# EAGLE library part 558342-CAT5 (library con-amp)
Modular Jack CAT-5
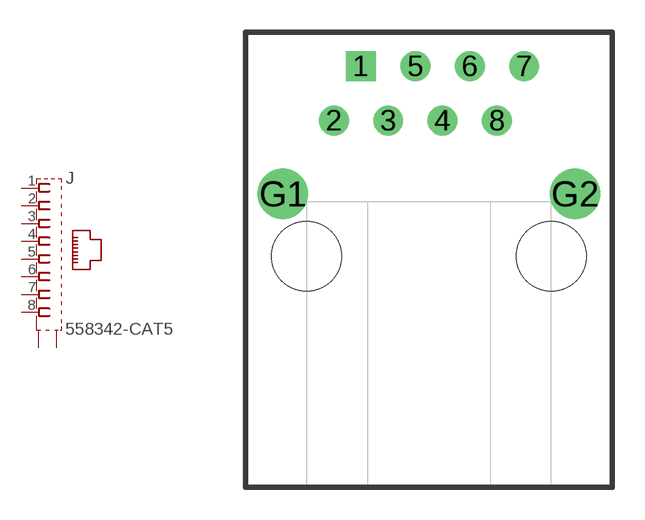
[diagram p137: symbol with the pads of 558342-CAT5; footprint 558342-CAT5]

Designator prefix J

## 558342-CAT5  [558342-CAT5]
1  1  pas
2  2  pas
3  3  pas
4  4  pas
5  5  pas
6  6  pas
7  7  pas
8  8  pas
G1  S1  pas
G2  S2  pas

## Footprint 558342-CAT5 (pad centres in mm)
Modular Jack CAT-5 CAT-5 PIN ORDER!
drill 0.889 square: 1 -3.175,8.89
drill 0.889: 2 -4.445,6.35; 3 -1.905,6.35; 4 0.635,6.35; 5 -0.635,8.89; 6 1.905,8.89; 7 4.445,8.89; 8 3.175,6.35
drill 1.575 pad 2.184: G1 -6.82,2.921; G2 6.82,2.921
hole 3.251 at -5.715,0
hole 3.251 at 5.715,0